# EAGLE library part 53?-07 (library con-molex-models)
CONNECTOR wire to board 1.25 mm (.049 inch) pitch header
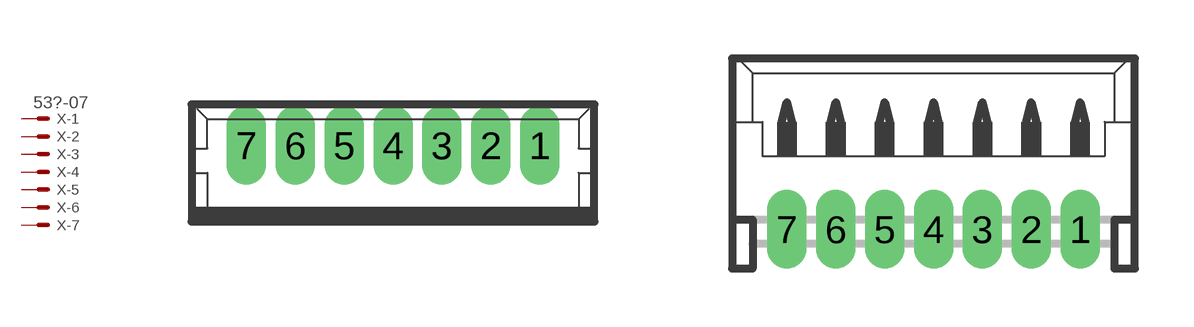
[diagram p19: symbol with the pads of 53047-07; footprints 53047-07, 53048-07]

Designator prefix X; gates -1=MV -2=M -3=M -4=M -5=M -6=M -7=M

## 53047-07 (MF: MOLEX; MPN: 53047-0710-C; OC_FARNELL: 9732870; OC_NEWARK: 11M0149)  [53047-07]
1  -1:S  pas
2  -2:S  pas
3  -3:S  pas
4  -4:S  pas
5  -5:S  pas
6  -6:S  pas
7  -7:S  pas

## 53048-07 (MF: MOLEX; MPN: 53048-0710; OC_FARNELL: 9732934; OC_NEWARK: 98K9835)  [53048-07]
Pads as for 53047-07

## 53261-07 (MF: MOLEX; OC_FARNELL: 1125361; OC_NEWARK: unknown)  [53261-07]
Pads as for 53047-07

## 53398-07 (MF: MOLEX; OC_FARNELL: 9786368; OC_NEWARK: unknown)  [53398-07]
Pads as for 53047-07

## Footprint 53047-07 (pad centres in mm)
1.25mm Pitch PicoBlade™ Wire-to-Board Header, Vertical, with Friction Lock, 7 Circuits Datasheet <http://www.molex.com/pdm_docs/sd/530470710_sd.pdf>
drill 0.5 pad 0.698 long: 1 3.75,0.45; 2 2.5,0.45; 3 1.25,0.45; 4 0,0.45; 5 -1.25,0.45; 6 -2.5,0.45; 7 -3.75,0.45

## Footprint 53048-07 (pad centres in mm)
1.25mm Pitch PicoBlade™ Header, Right Angle, 7 Circuits Datasheet <http://www.molex.com/pdm_docs/sd/530480710_sd.pdf>
drill 0.5 pad 0.698 long: 1 3.75,-1.25; 2 2.5,-1.25; 3 1.25,-1.25; 4 0,-1.25; 5 -1.25,-1.25; 6 -2.5,-1.25; 7 -3.75,-1.25

## Footprint 53261-07 (pad centres in mm)
1.25mm Pitch PicoBlade™ Header, Surface Mount, Right Angle, 7 Circuits Datasheet <http://www.molex.com/pdm_docs/sd/532610771_sd.pdf>
smd 0.8 x 2: 1 3.75,-2.5; 2 2.5,-2.5; 3 1.25,-2.5; 4 0,-2.5; 5 -1.25,-2.5; 6 -2.5,-2.5; 7 -3.75,-2.5
smd 2.1 x 3: S1 6.25,0.625; S2 -6.25,0.625

## Footprint 53398-07 (pad centres in mm)
1.25mm Pitch PicoBlade™ Header, Surface Mount, Vertical, 7 Circuits Datasheet <http://www.molex.com/pdm_docs/sd/533980771_sd.pdf>
smd 0.8 x 1.8: 1 3.75,-2.5; 2 2.5,-2.5; 3 1.25,-2.5; 4 0,-2.5; 5 -1.25,-2.5; 6 -2.5,-2.5; 7 -3.75,-2.5
smd 2.1 x 3: S1 6.25,0.625; S2 -6.25,0.625